# Altium footprint library PcbLib.PcbLib: 18 footprints (part 2 of 2)
Each footprint in its own frame and in the unit in brackets; x right, y up, seen from the top. Pads: shape width x height; smd on the part's side, far side on the other; paste and mask are expansions set on the pad; w line width, h text height; cw(c..) or ccw(c..) is an arc to the next point about the centre after c.
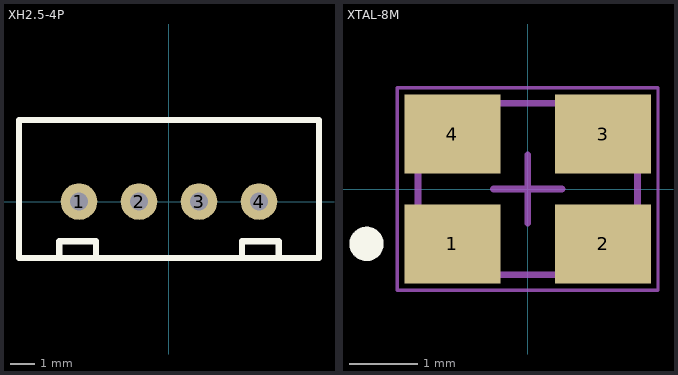
[diagram p1: the footprints below, top view; thin cyan lines are the x and y axes]

## XH2.5-4P [mil]
pads (4):
  round 60 hole 30: 1(-147.64,0) 2(-49.21,0) 3(49.21,0) 4(147.64,0)
Top Overlay:
  lines w10: -180,-92.52 -180,-65 -120,-65 -120,-92.52 ; 120,-92.52 120,-65 180,-65 180,-92.52 ; -246.06,-92.52 246.06,-92.52 246.06,133.86 -246.06,133.86 -246.06,-92.52
3D body "JS-1132-4.STEP": height 236.22, standoff -98.43, extent -243.7,-65 248.42,84.61

## XTAL-8M [mm]
pads (4):
  rect 1.4x1.15 smd: 1(-1.1,-0.8) 2(1.1,-0.8) 3(1.1,0.8) 4(-1.1,0.8)
Top Overlay:
  circle w0.25: c-2.35,-0.8 r0.125
Mechanical 13:
  lines w0.1: -1.6,-1.25 -1.6,1.25 1.6,1.25 1.6,-1.25 -1.6,-1.25
Mechanical 15:
  lines w0.05: -1.9,-1.475 1.9,-1.475 1.9,1.475 -1.9,1.475 -1.9,-1.475
  lines w0.1: -0.5,0 0.5,0 ; 0,-0.5 0,0.5
3D body: height 0.6, standoff 0, extent -1.6,-1.25 1.6,1.25